# Altium schematic symbol library U.SchLib: 2 symbols
Pins are listed as number, name and electrical type; pins without a type are passive.

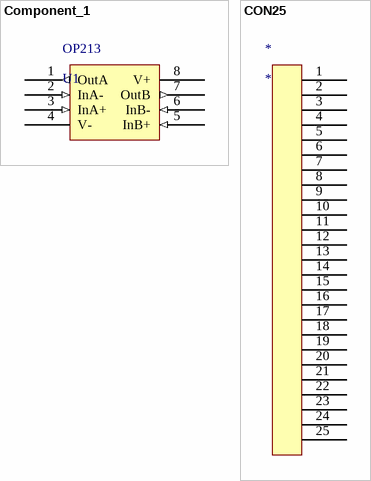
[diagram p0: symbols Component_1 to CON25]

## Component_1
designator OP213, comment U1
pins: 1 OutA (out), 2 InA- (in), 3 InA+ (in), 4 V-, 5 InB+ (in), 6 InB- (in), 7 OutB (out), 8 V+

## CON25
designator *
pins: 1, 2, 3, 4, 5, 6, 7, 8, 9, 10, 11, 12, 13, 14, 15, 16, 17, 18, 19, 20, 21, 22, 23, 24, 25